# EAGLE library part MCP2562 (library we-chip)
Microchip MCP2562/MCP2562FD CAN Transceiver
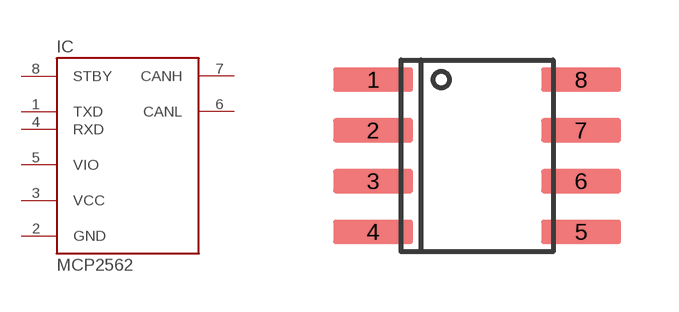
[diagram p47: symbol with the pads of SO08; footprint SO08]

Designator prefix IC

## MCP2562T-E/SN  [SO08]
1  TXD
2  GND  pwr
3  VCC  pwr
4  RXD
5  VIO  pwr
6  CANL  pas
7  CANH  pas
8  STBY

## MCP2562FDT-E/SN  [SO08]
Pads as for SO08

## Footprint SO08 (pad centres in mm)
smd 2 x 0.6: 1 -2.6,1.905; 2 -2.6,0.635; 3 -2.6,-0.635; 4 -2.6,-1.905; 5 2.6,-1.905; 6 2.6,-0.635; 7 2.6,0.635; 8 2.6,1.905